# EAGLE library part ST-VL53L0X (library FaBo-Mems)
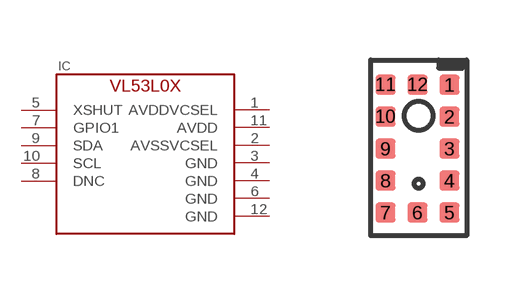
[diagram p34: symbol with the pads of ST-VL53L0X; footprint ST-VL53L0X]

Designator prefix IC

## ST-VL53L0XVL53  [ST-VL53L0X]
1  AVDDVCSEL
2  AVSSVCSEL
3  GND
4  GND
5  XSHUT
6  GND
7  GPIO1
8  DNC
9  SDA
10  SCL
11  AVDD
12  GND

## Footprint ST-VL53L0X (pad centres in mm)
smd 0.5 x 0.5: 1 0.77,1.58; 2 0.77,0.78; 3 0.77,-0.02; 4 0.77,-0.82; 5 0.77,-1.62; 6 -0.03,-1.62; 7 -0.83,-1.62; 8 -0.83,-0.82; 9 -0.83,-0.02; 10 -0.83,0.78; 11 -0.83,1.58; 12 -0.03,1.58